# Altium footprint library DPAK.PcbLib: 2 footprints
Each footprint in its own frame and in the unit in brackets; x right, y up, seen from the top. Pads: shape width x height; smd on the part's side, far side on the other; paste and mask are expansions set on the pad; w line width, h text height; cw(c..) or ccw(c..) is an arc to the next point about the centre after c.
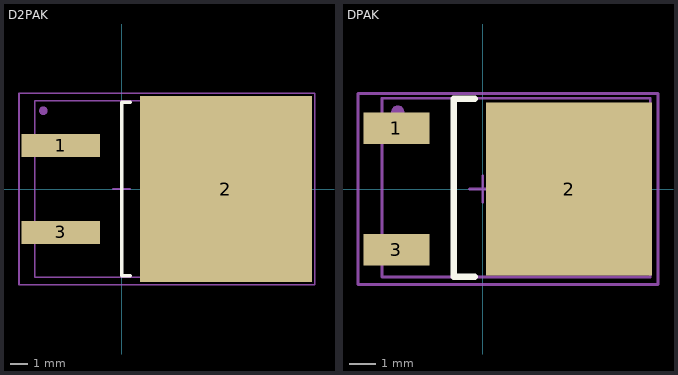
[diagram p0: the footprints below, top view; thin cyan lines are the x and y axes]

## D2PAK [mm]
height 2.38
pads (4):
  rect 4.5x1.3 smd: 1(-3.5,2.5) 3(-3.5,-2.5)
  rect 9.9x10.7 smd: 2(6,0)
  round 0.5 on Mech3: ""(-4.5,4.5)
Top Overlay:
  lines w0.2: 0.5,-5 0,-5 0,5 0.5,5
Top Assembly (Mech3):
  lines w0.1: -5,-5.08 10.264,-5.08 10.264,5.08 -5,5.08 -5,-5.08
Top Courtyard:
  lines w0.1: -0.5,0 0.5,0 ; 0,-0.5 0,0.5 ; -5.9,-5.5 11.1,-5.5 11.1,5.5 -5.9,5.5 -5.9,-5.5
3D body "User Library-DPAK.STEP": height 4.88, standoff -0.13, extent -5,-5.08 10.264,5.08

## DPAK [mm]
height 2.4
pads (4):
  rect 2.5x1.2 smd: 1(-3.25,2.29) 3(-3.25,-2.29)
  rect 6.25x6.5 smd: 2(3.25,0)
  round 0.5 on Mech3: ""(-3.2,2.9)
Top Overlay:
  lines w0.25: -0.3,-3.3 -1.1,-3.3 -1.1,3.4 -0.3,3.4
Top Assembly (Mech3):
  lines w0.1: -3.798,-3.317 6.302,-3.317 6.302,3.417 ; -3.798,-3.317 -3.798,-3.317 ; -3.798,-3.317 -3.798,3.417 6.302,3.417 ; 6.302,3.417 6.302,3.417
Top Courtyard:
  lines w0.1: -0.5,0 0.5,0 ; 0,-0.5 0,0.5 ; -4.7,-3.6 -4.7,3.6 6.6,3.6 6.6,-3.6 -4.7,-3.6
3D body "User Library-DPAK_TO-252AA.STEP": height 2.37, standoff -0.03, extent -3.798,-3.317 6.302,3.417